# Altium schematic symbol library keypad.SchLib: 1 symbol
Pins are listed as number, name and electrical type; pins without a type are passive.

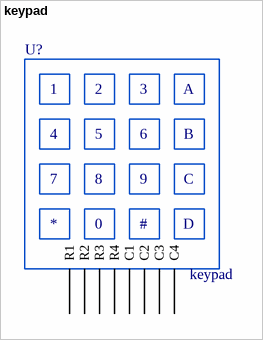
[diagram p0: symbol keypad]

## keypad
designator U?
footprint PCBComponent_1
pins: C1, C2, C3, C4, R1, R2, R3, R4
text: 1; 2; 3; A; 4; 5; 6; B; 7; 8; 9; C; 0; #; D